# Altium schematic symbol library BNC-PCB-RA.Schlib: 1 symbol
Pins are listed as number, name and electrical type; pins without a type are passive.

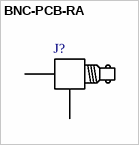
[diagram p0: symbol BNC-PCB-RA]

## BNC-PCB-RA
designator J?
connector bnc
pins: 1, 2 gnd, A, B